# Altium integrated library WP_SNAP-IN_BASE.IntLib: 1 symbol
Pins are listed as number, name and electrical type; pins without a type are passive.

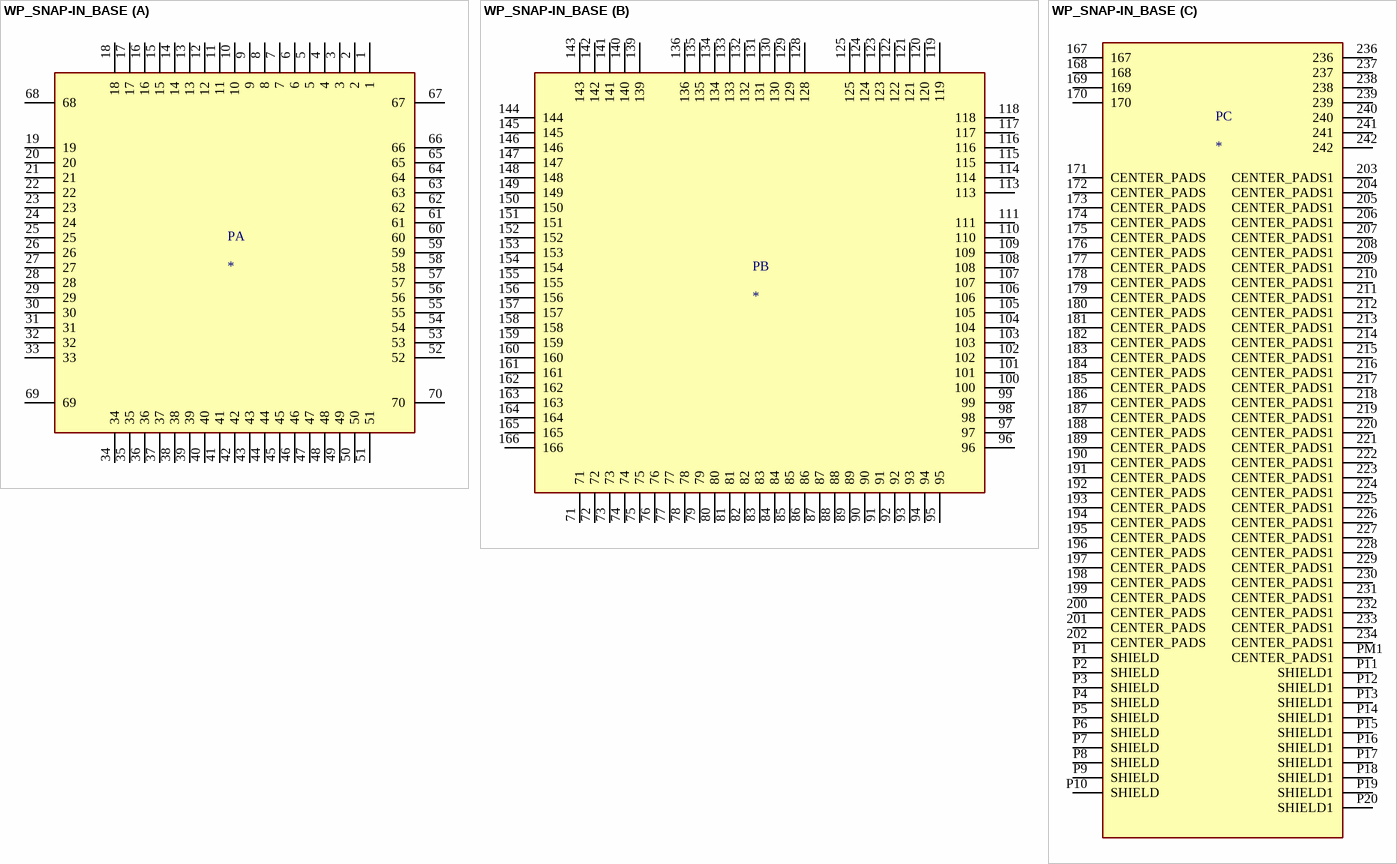
[diagram p0: symbol WP_SNAP-IN_BASE]

## WP_SNAP-IN_BASE
designator P
WP SNAP IN SOCKET BASE FRAME 157; MF: Sierra Wireless; MP: WP SNAP-IN BASE; Availability: Unavailable; SnapEDA_Link: https://www.snapeda.com/parts/WP%20SNAP-IN%20BASE/Sierra%20Wireless/view-part/1245533/?ref=snap; Price: None; Package: None; Value: *
footprint SIERRA_WP_SNAP-IN_BASE
part A pins: 1, 2, 3, 4, 5, 6, 7, 8, 9, 10, 11, 12, 13, 14, 15, 16, 17, 18, 19, 20, 21, 22, 23, 24, 25, 26, 27, 28, 29, 30, 31, 32, 33, 34, 35, 36, 37, 38, 39, 40, 41, 42, 43, 44, 45, 46, 47, 48, 49, 50, 51, 52, 53, 54, 55, 56, 57, 58, 59, 60, 61, 62, 63, 64, 65, 66, 67, 68, 69, 70
part B pins: 71, 72, 73, 74, 75, 76, 77, 78, 79, 80, 81, 82, 83, 84, 85, 86, 87, 88, 89, 90, 91, 92, 93, 94, 95, 96, 97, 98, 99, 100, 101, 102, 103, 104, 105, 106, 107, 108, 109, 110, 111, 113, 114, 115, 116, 117, 118, 119, 120, 121, 122, 123, 124, 125, 128, 129, 130, 131, 132, 133, 134, 135, 136, 139, 140, 141, 142, 143, 144, 145, 146, 147, 148, 149, 150, 151, 152, 153, 154, 155, 156, 157, 158, 159, 160, 161, 162, 163, 164, 165, 166
part C pins: 167, 168, 169, 170, 171 CENTER_PADS, 172 CENTER_PADS, 173 CENTER_PADS, 174 CENTER_PADS, 175 CENTER_PADS, 176 CENTER_PADS, 177 CENTER_PADS, 178 CENTER_PADS, 179 CENTER_PADS, 180 CENTER_PADS, 181 CENTER_PADS, 182 CENTER_PADS, 183 CENTER_PADS, 184 CENTER_PADS, 185 CENTER_PADS, 186 CENTER_PADS, 187 CENTER_PADS, 188 CENTER_PADS, 189 CENTER_PADS, 190 CENTER_PADS, 191 CENTER_PADS, 192 CENTER_PADS, 193 CENTER_PADS, 194 CENTER_PADS, 195 CENTER_PADS, 196 CENTER_PADS, 197 CENTER_PADS, 198 CENTER_PADS, 199 CENTER_PADS, 200 CENTER_PADS, 201 CENTER_PADS, 202 CENTER_PADS, 203 CENTER_PADS1, 204 CENTER_PADS1, 205 CENTER_PADS1, 206 CENTER_PADS1, 207 CENTER_PADS1, 208 CENTER_PADS1, 209 CENTER_PADS1, 210 CENTER_PADS1, 211 CENTER_PADS1, 212 CENTER_PADS1, 213 CENTER_PADS1, 214 CENTER_PADS1, 215 CENTER_PADS1, 216 CENTER_PADS1, 217 CENTER_PADS1, 218 CENTER_PADS1, 219 CENTER_PADS1, 220 CENTER_PADS1, 221 CENTER_PADS1, 222 CENTER_PADS1, 223 CENTER_PADS1, 224 CENTER_PADS1, 225 CENTER_PADS1, 226 CENTER_PADS1, 227 CENTER_PADS1, 228 CENTER_PADS1, 229 CENTER_PADS1, 230 CENTER_PADS1, 231 CENTER_PADS1, 232 CENTER_PADS1, 233 CENTER_PADS1, 234 CENTER_PADS1, 236, 237, 238, 239, 240, 241, 242, P1 SHIELD, P2 SHIELD, P3 SHIELD, P4 SHIELD, P5 SHIELD, P6 SHIELD, P7 SHIELD, P8 SHIELD, P9 SHIELD, P10 SHIELD, P11 SHIELD1, P12 SHIELD1, P13 SHIELD1, P14 SHIELD1, P15 SHIELD1, P16 SHIELD1, P17 SHIELD1, P18 SHIELD1, P19 SHIELD1, P20 SHIELD1, PM1 CENTER_PADS1